# Altium schematic symbol library mcu.SchLib: 1 symbol
Pins are listed as number, name and electrical type; pins without a type are passive.

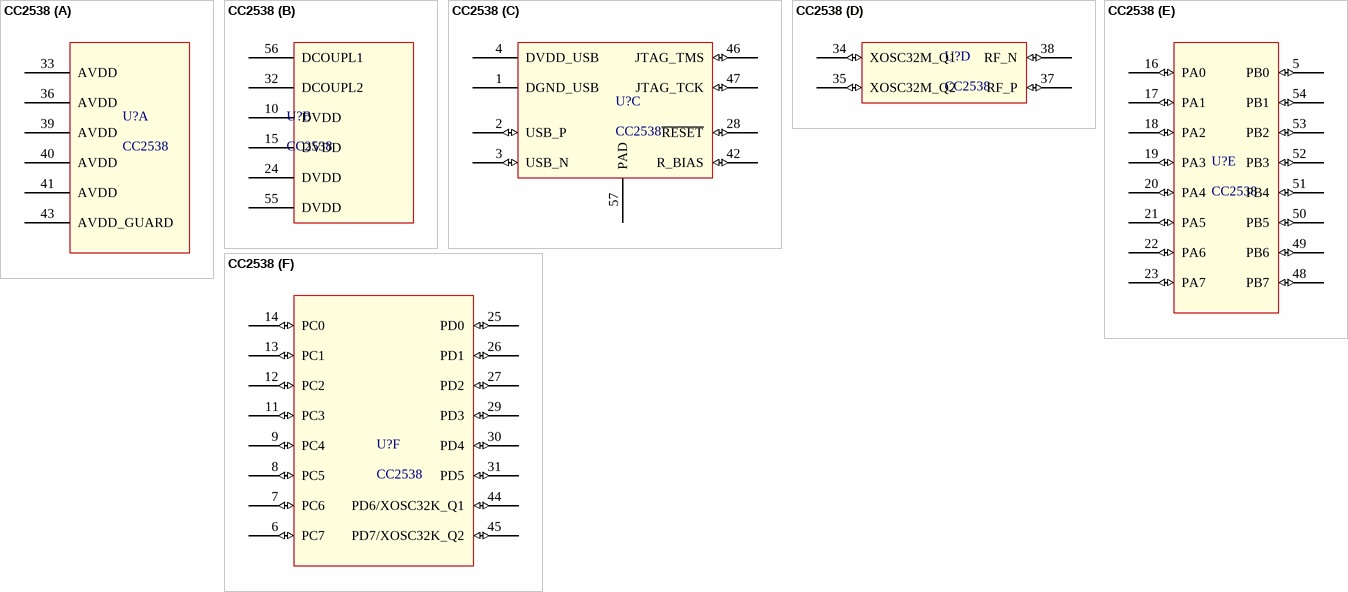
[diagram p0: symbol CC2538]

## CC2538
designator U?
A Powerful System-On-Chip for 2.4-GHz IEEE 802.15.4, 6LoWPAN  and ZigBee Applications; Supplier 1: Digi-Key; Supplier Part Number 1: 296-35797-1-ND
footprint QFN56 (QFN, 56-Leads, Body 8.00x8.00mm, Pitch 0.50mm, Thermal Pad 6.60x6.60mm, IPC Medium Density)
part A pins: 33 AVDD (power), 36 AVDD (power), 39 AVDD (power), 40 AVDD (power), 41 AVDD (power), 43 AVDD_GUARD (power)
part B pins: 10 DVDD (power), 15 DVDD (power), 24 DVDD (power), 32 DCOUPL2 (power), 55 DVDD (power), 56 DCOUPL1 (power)
part C pins: 1 DGND_USB (power), 2 USB_P (io), 3 USB_N (io), 4 DVDD_USB (power), 28 ~{RESET} (io), 42 R_BIAS (io), 46 JTAG_TMS (io), 47 JTAG_TCK (io), 57 PAD (power)
part D pins: 34 XOSC32M_Q1 (io), 35 XOSC32M_Q2 (io), 37 RF_P (io), 38 RF_N (io)
part E pins: 5 PB0 (io), 16 PA0 (io) "Bootloader UART RXD", 17 PA1 (io) "Bootloader UART TXD", 18 PA2 (io) "Bootloader SSI CLK", 19 PA3 (io) "Bootloader SSI SEL", 20 PA4 (io) "Bootloader SSI RXD", 21 PA5 (io) "Bootloader SSI TXD", 22 PA6 (io), 23 PA7 (io), 48 PB7 (io), 49 PB6 (io), 50 PB5 (io), 51 PB4 (io), 52 PB3 (io), 53 PB2 (io), 54 PB1 (io)
part F pins: 6 PC7 (io), 7 PC6 (io), 8 PC5 (io), 9 PC4 (io), 11 PC3 (io), 12 PC2 (io), 13 PC1 (io), 14 PC0 (io), 25 PD0 (io), 26 PD1 (io), 27 PD2 (io), 29 PD3 (io), 30 PD4 (io), 31 PD5 (io), 44 PD6/XOSC32K_Q1 (io), 45 PD7/XOSC32K_Q2 (io)